# Altium footprint library 1500uF_SMD.PcbLib: 1 footprints
Each footprint in its own frame and in the unit in brackets; x right, y up, seen from the top. Pads: shape width x height; smd on the part's side, far side on the other; paste and mask are expansions set on the pad; w line width, h text height; cw(c..) or ccw(c..) is an arc to the next point about the centre after c.
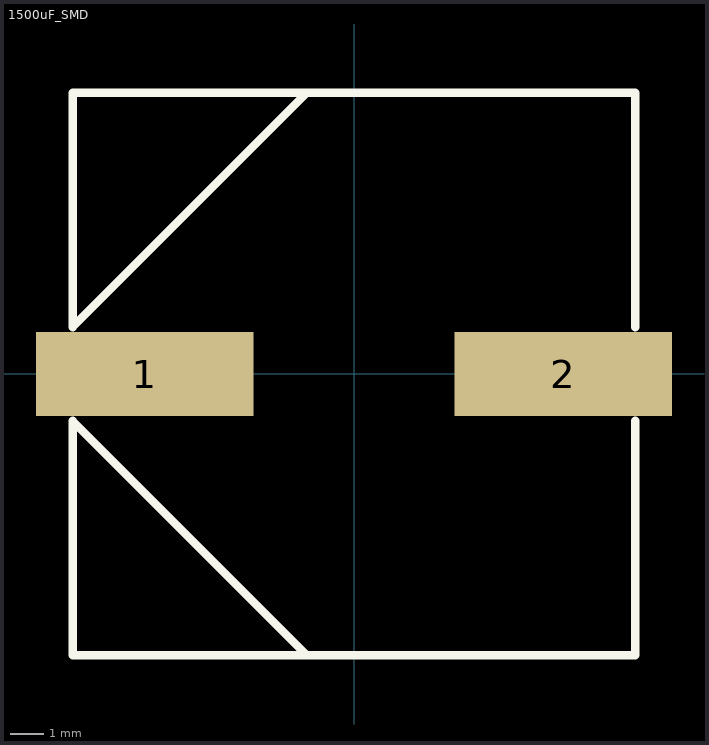
[diagram p0: the footprint, top view; thin cyan lines are the x and y axes]

## 1500uF_SMD [mm]
pads (2):
  rect 6.5x2.5 smd paste+0 mask+0: 1(-6.25,0) 2(6.25,0)
Top Overlay:
  lines w0.254: -1.4,-8.4 -8.4,-1.4 ; -1.4,8.4 -8.4,1.4 -8.4,8.4 8.4,8.4 8.4,1.4 ; 8.4,-1.4 8.4,-8.4 -8.4,-8.4 -8.4,-1.4 ; -8.4,-1.4 -8.4,-1.4
3D body "EEVFK1V152M.stp": height 17.1, standoff 0, extent -9.25,-8.5 9.25,8.5